# Altium schematic symbol library SuperCapasitors.SchLib: 1 symbol
Pins are listed as number, name and electrical type; pins without a type are passive.

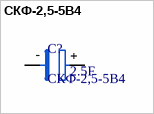
[diagram p0: symbol СКФ-2,5-5В4]

## СКФ-2,5-5В4
designator C?  value 2.5F
footprint CH? (СКФ-2,5-5В4)
footprint Cv? (vertical orientation)
footprint C10deg (horizontal, 10deg rotation)
pins: 1 +, 2 +
text: -